# Altium footprint library LED 2835.PcbLib: 1 footprints
Each footprint in its own frame and in the unit in brackets; x right, y up, seen from the top. Pads: shape width x height; smd on the part's side, far side on the other; paste and mask are expansions set on the pad; w line width, h text height; cw(c..) or ccw(c..) is an arc to the next point about the centre after c.
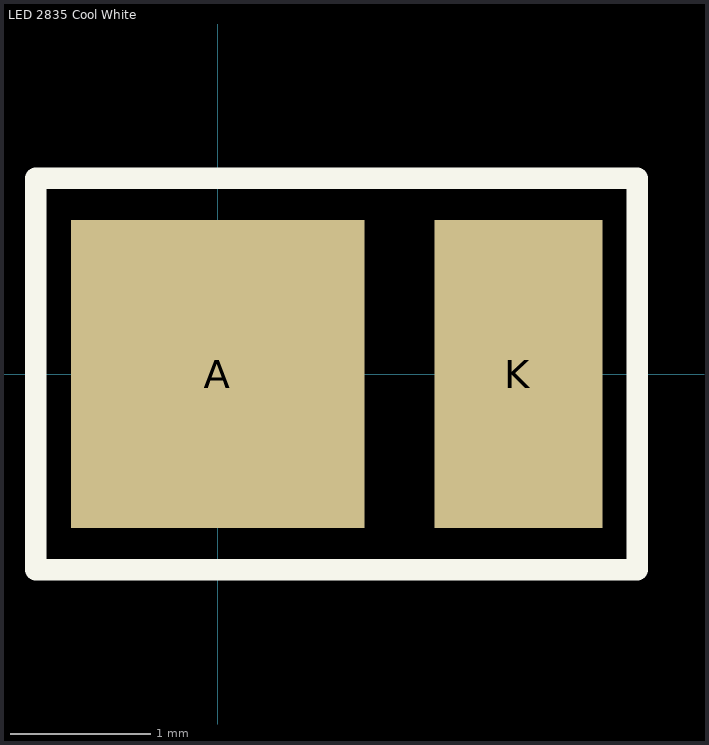
[diagram p0: the footprint, top view; thin cyan lines are the x and y axes]

## LED 2835 Cool White [mm] "LED Lighting - White, Cool 6020K (5300K ~ 7050K) 3.2V 60mA  1113 (2835 Metric)"
pads (2):
  rect 2.1x2.2 smd: A(0,0)
  rect 1.2x2.2 smd: K(2.15,0)
Top Overlay:
  lines w0.152: -1.3,-1.4 3,-1.4 3,1.4 -1.3,1.4 -1.3,-1.4
3D body "LED 2835.step": height 0.74, standoff 0.01, extent -0.956,-1.4 2.556,1.4